# EAGLE library part M06 (library stiftleisten)
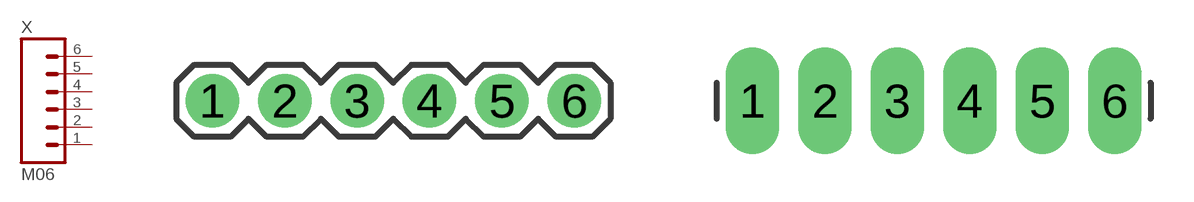
[diagram p0: symbol with the pads of 1X06; footprints 1X06, 1X06_LONGPADS]

Designator prefix X

## M06PAD  [1X06]
1  1  pas
2  2  pas
3  3  pas
4  4  pas
5  5  pas
6  6  pas

## M06LONGPAD  [1X06_LONGPADS]
Pads as for 1X06

## Footprint 1X06 (pad centres in mm)
drill 1 pad 1.88: 1 0,0; 2 2.54,0; 3 5.08,0; 4 7.62,0; 5 10.16,0; 6 12.7,0

## Footprint 1X06_LONGPADS (pad centres in mm)
drill 1.118 pad 1.88 long: 1 0,0; 2 2.54,0; 3 5.08,0; 4 7.62,0; 5 10.16,0; 6 12.7,0